# Altium integrated library MCP4011-502E_SN.IntLib: 1 symbol
Pins are listed as number, name and electrical type; pins without a type are passive.

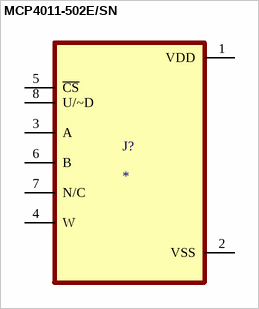
[diagram p0: symbol MCP4011-502E/SN]

## MCP4011-502E/SN
designator J?
MP: MCP4011-502E/SN; Package: None; Price: None; Value: *; Availability: Unavailable
footprint SOIC127P600X175-8N
pins: 1 VDD (power), 2 VSS (power), 3 A, 4 W, 5 ~{CS}, 6 B, 7 N/C, 8 U/~D